# EAGLE library part ADUM1250 (library Analog Devices)
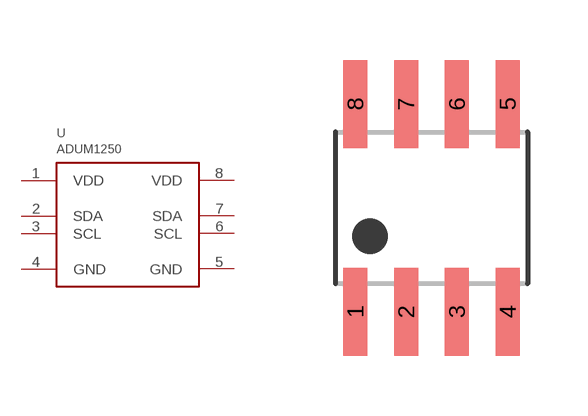
[diagram p1: symbol with the pads of SOIC8; footprint SOIC8]

Designator prefix U

## ADUM1250  [SOIC8]
1  VDD
2  SDA
3  SCL
4  GND
5  GND
6  SCL
7  SDA
8  VDD

## Footprint SOIC8 (pad centres in mm)
smd 0.6 x 2.2: 1 -1.905,-2.6; 2 -0.635,-2.6; 3 0.635,-2.6; 4 1.905,-2.6; 5 1.905,2.6; 6 0.635,2.6; 7 -0.635,2.6; 8 -1.905,2.6